# Altium schematic symbol library SnapEDAsch.SchLib: 1 symbol
Pins are listed as number, name and electrical type; pins without a type are passive.

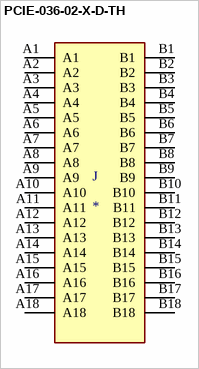
[diagram p0: symbol PCIE-036-02-X-D-TH]

## PCIE-036-02-X-D-TH
designator J
1.00 mm PCI ExpressÂ® Edge Card Connector; MF: Samtec; MP: PCIE-036-02-X-D-TH; Value: *; Availability: Unavailable; Package: None; Price: None
footprint SAMTEC_PCIE-036-02-X-D-TH
pins: A1, A2, A3, A4, A5, A6, A7, A8, A9, A10, A11, A12, A13, A14, A15, A16, A17, A18, B1, B2, B3, B4, B5, B6, B7, B8, B9, B10, B11, B12, B13, B14, B15, B16, B17, B18